# EAGLE library part CS4384 (library cirrus)
D/A Converter 8-Channel, 103 dB, 192 kHz
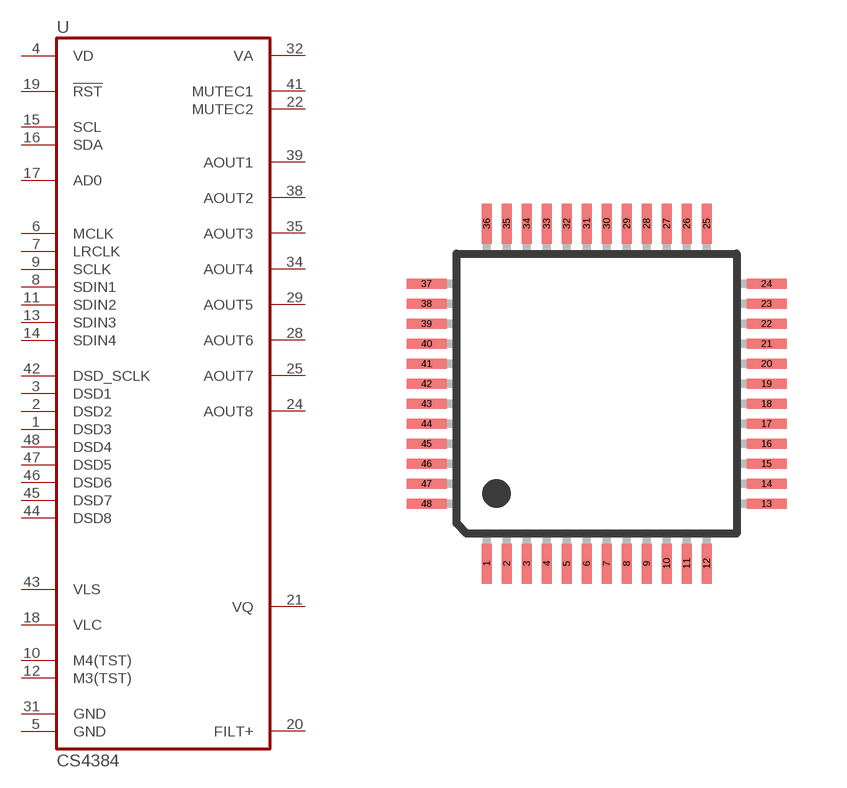
[diagram p20: symbol with the pads of LQFP48L; footprint LQFP48L]

Designator prefix U

## CS4384  [LQFP48L]
1  DSD3  in
2  DSD2  in
3  DSD1  in
4  VD  pwr
5  GND  pwr
6  MCLK  in
7  LRCLK  in
8  SDIN1  in
9  SCLK  in
10  M4(TST)  in
11  SDIN2  in
12  M3(TST)  in
13  SDIN3  in
14  SDIN4  in
15  SCL  in
16  SDA  in
17  AD0  in
18  VLC  pwr
19  !RST!  in
20  FILT+  in
21  VQ  pwr
22  MUTEC2  out
24  AOUT8  out
25  AOUT7  out
28  AOUT6  out
29  AOUT5  out
31  GND  pwr
32  VA  pwr
34  AOUT4  out
35  AOUT3  out
38  AOUT2  out
39  AOUT1  out
41  MUTEC1  out
42  DSD_SCLK  in
43  VLS  pwr
44  DSD8  in
45  DSD7  in
46  DSD6  in
47  DSD5  in
48  DSD4  in

## Footprint LQFP48L (pad centres in mm)
LQFP-48L body 7 x 7 mm
smd 0.25 x 1: 1 -2.75,-4.25; 2 -2.25,-4.25; 3 -1.75,-4.25; 4 -1.25,-4.25; 5 -0.75,-4.25; 6 -0.25,-4.25; 7 0.25,-4.25; 8 0.75,-4.25; 9 1.25,-4.25; 10 1.75,-4.25; 11 2.25,-4.25; 12 2.75,-4.25; 25 2.75,4.25; 26 2.25,4.25; 27 1.75,4.25; 28 1.25,4.25; 29 0.75,4.25; 30 0.25,4.25; 31 -0.25,4.25; 32 -0.75,4.25; 33 -1.25,4.25; 34 -1.75,4.25; 35 -2.25,4.25; 36 -2.75,4.25
smd 1 x 0.25: 13 4.25,-2.75; 14 4.25,-2.25; 15 4.25,-1.75; 16 4.25,-1.25; 17 4.25,-0.75; 18 4.25,-0.25; 19 4.25,0.25; 20 4.25,0.75; 21 4.25,1.25; 22 4.25,1.75; 23 4.25,2.25; 24 4.25,2.75; 37 -4.25,2.75; 38 -4.25,2.25; 39 -4.25,1.75; 40 -4.25,1.25; 41 -4.25,0.75; 42 -4.25,0.25; 43 -4.25,-0.25; 44 -4.25,-0.75; 45 -4.25,-1.25; 46 -4.25,-1.75; 47 -4.25,-2.25; 48 -4.25,-2.75